# Altium footprint library Rising Clamp System WR-TBL_3.50 mm.PcbLib: 34 footprints (part 1 of 3)
Each footprint in its own frame and in the unit in brackets; x right, y up, seen from the top. Pads: shape width x height; smd on the part's side, far side on the other; paste and mask are expansions set on the pad; w line width, h text height; cw(c..) or ccw(c..) is an arc to the next point about the centre after c.
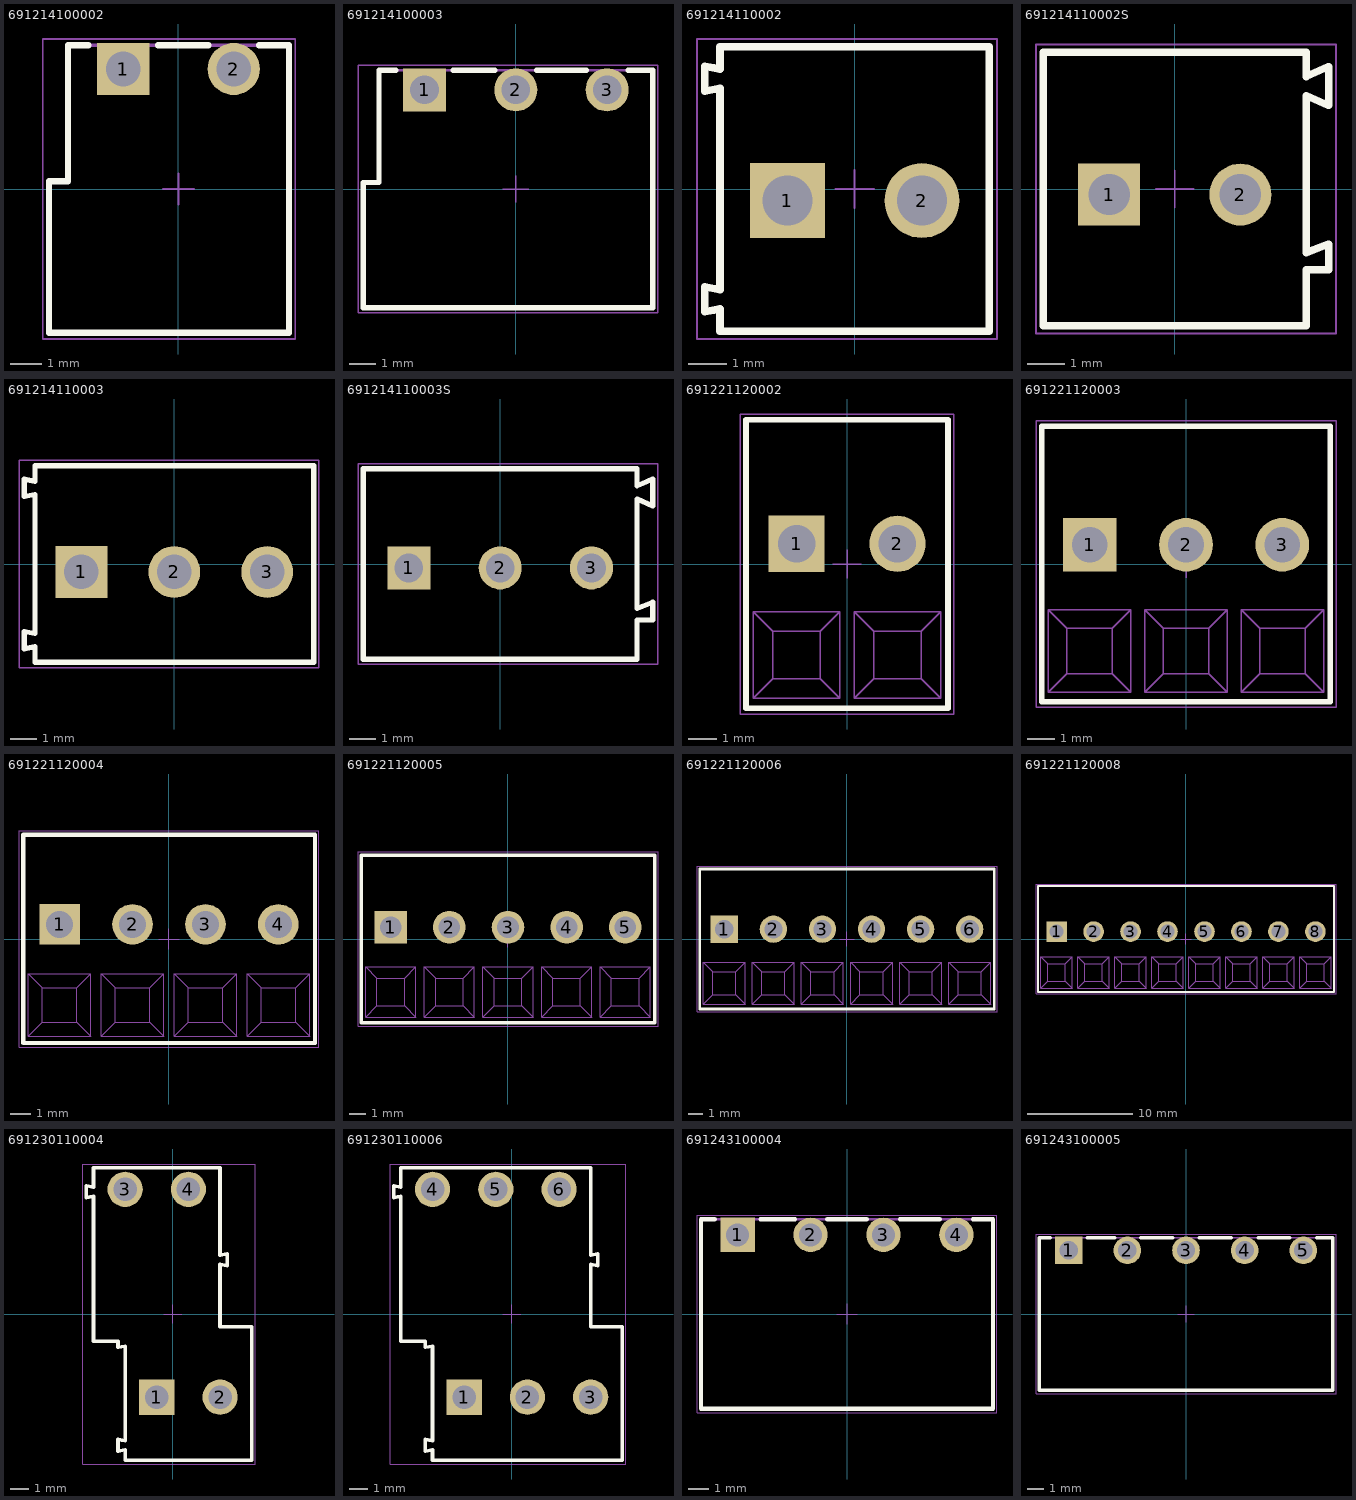
[diagram p0: the footprints below, top view; thin cyan lines are the x and y axes]

## 691214100002 [mm] "3.50 mm Vertical Entry Modular with Rising Cage Clamp, 2p"
height 7.3
pads (2):
  rect 1.65x1.65 hole 1.1: 1(-1.75,3.8)
  round 1.65 hole 1.1: 2(1.75,3.8)
Top Overlay:
  lines w0.2: -2.85,4.55 -3.5,4.55 -3.5,0.25 -4.1,0.25 -4.1,-4.55 3.5,-4.55 3.5,4.55 2.55,4.55 ; -0.65,4.55 0.95,4.55
M13 Assembly Top:
  lines w0.1: -4.1,-4.55 -4.1,0.25 -3.5,0.25 -3.5,4.55 3.5,4.55 3.5,-4.55 -4.1,-4.55
M15 Courtyard Top:
  lines w0.05: -0.5,0 0.5,0 ; 0,-0.5 0,0.5 ; -4.3,-4.75 3.7,-4.75 3.7,4.75 -4.3,4.75 -4.3,-4.75
3D body "691214100002.stp": height 7.35, standoff -3.45, extent -4.1,-4.55 3.5,4.55

## 691214100003 [mm] "3.50 mm Vertical Entry Modular with Rising Cage Clamp, 3p"
height 7.3
pads (3):
  rect 1.65x1.65 hole 1.1: 1(-3.5,3.8)
  round 1.65 hole 1.1: 2(0,3.8) 3(3.5,3.8)
Top Overlay:
  lines w0.2: -4.6,4.55 -5.25,4.55 -5.25,0.25 -5.85,0.25 -5.85,-4.55 5.25,-4.55 5.25,4.55 4.3,4.55 ; -2.4,4.55 -0.8,4.55 ; 0.8,4.55 2.7,4.55
M13 Assembly Top:
  lines w0.1: -5.85,-4.55 -5.85,0.25 -5.25,0.25 -5.25,4.55 5.25,4.55 5.25,-4.55 -5.85,-4.55
M15 Courtyard Top:
  lines w0.05: -0.5,0 0.5,0 ; 0,-0.5 0,0.5 ; -6.05,-4.75 5.45,-4.75 5.45,4.75 -6.05,4.75 -6.05,-4.75
3D body "691214100003.stp": height 7.35, standoff -3.45, extent -5.85,-4.55 5.25,4.55

## 691214110002 [mm] "3.50 mm Horizontal Entry Modular, 2p"
height 8.5
pads (2):
  rect 1.95x1.95 hole 1.3: 1(-1.75,-0.3)
  round 1.95 hole 1.3: 2(1.75,-0.3)
Top Overlay:
  lines w0.2: -3.9,-3.195 -3.5,-3.12 -3.5,-3.7 3.5,-3.7 3.5,3.7 -3.5,3.7 -3.5,3.12 -3.9,3.195 -3.9,2.545 -3.5,2.62 -3.5,-2.62 -3.9,-2.545 -3.9,-3.195
M13 Assembly Top:
  lines w0.1: -3.9,-3.195 -3.9,-2.545 -3.5,-2.62 -3.5,2.62 -3.9,2.545 -3.9,3.195 -3.5,3.12 -3.5,3.7 3.5,3.7 3.5,-3.7 -3.5,-3.7 -3.5,-3.12 -3.9,-3.195
M15 Courtyard Top:
  lines w0.05: -0.5,0 0.5,0 ; 0,-0.5 0,0.5 ; -4.1,-3.9 3.7,-3.9 3.7,3.9 -4.1,3.9 -4.1,-3.9
3D body "691214110002.stp": height 8.55, standoff -3.65, extent -3.95,-3.7 3.5,3.7

## 691214110002S [mm] "Serie 2141S - 3.50 mm _ 2 pins"
height 9.1
pads (2):
  rect 1.65x1.65 hole 1.1: 1(-1.75,-0.15)
  round 1.65 hole 1.1: 2(1.75,-0.15)
Top Overlay:
  lines w0.2: 4.1,-1.47 4.1,-2.15 3.5,-2.15 3.5,-3.65 -3.5,-3.65 -3.5,3.65 3.5,3.65 3.5,3 4.099,3.262 ; 4.099,-1.468 3.5,-1.7 3.5,2.49 4.099,2.228 ; 4.1,2.23 4.1,3.26
M13 Assembly Top:
  lines w0.1: 4.1,-1.47 4.1,-2.15 3.5,-2.15 3.5,-3.65 -3.5,-3.65 -3.5,3.65 3.5,3.65 3.5,3 4.099,3.262 ; 4.099,-1.468 3.5,-1.7 3.5,2.49 4.099,2.228 ; 4.1,2.23 4.1,3.26
M15 Courtyard Top:
  lines w0.05: -0.5,0 0.5,0 ; 0,-0.5 0,0.5 ; -3.7,-3.85 -3.7,3.85 4.3,3.85 4.3,-3.85 -3.7,-3.85
3D body "691214110002S.stp": height 9.15, standoff -3.45, extent -3.5,-3.65 4.1,3.65

## 691214110003 [mm] "3.50 mm Horizontal Entry Modular, 3p"
height 8.5
pads (3):
  rect 1.95x1.95 hole 1.3: 1(-3.5,-0.3)
  round 1.95 hole 1.3: 2(0,-0.3) 3(3.5,-0.3)
Top Overlay:
  lines w0.2: -5.65,-3.195 -5.65,-2.545 -5.25,-2.62 -5.25,2.62 -5.65,2.545 -5.65,3.195 -5.25,3.12 -5.25,3.7 5.25,3.7 5.25,-3.7 -5.25,-3.7 -5.25,-3.12 -5.65,-3.195
M13 Assembly Top:
  lines w0.1: -5.65,-3.195 -5.25,-3.12 -5.25,-3.7 5.25,-3.7 5.25,3.7 -5.25,3.7 -5.25,3.12 -5.65,3.195 -5.65,2.545 -5.25,2.62 -5.25,-2.62 -5.65,-2.545 -5.65,-3.195
M15 Courtyard Top:
  lines w0.05: -0.5,0 0.5,0 ; 0,-0.5 0,0.5 ; -5.85,-3.9 -5.85,3.9 5.45,3.9 5.45,-3.9 -5.85,-3.9
3D body "691214110003.stp": height 8.55, standoff -3.65, extent -5.7,-3.7 5.25,3.7

## 691214110003S [mm] "Serie 2141S - 3.50 mm _ 3 pins"
height 9.1
pads (3):
  rect 1.65x1.65 hole 1.1: 1(-3.5,-0.15)
  round 1.65 hole 1.1: 2(0,-0.15) 3(3.5,-0.15)
Top Overlay:
  lines w0.2: 5.85,-1.47 5.85,-2.15 5.25,-2.15 5.25,-3.65 -5.25,-3.65 -5.25,3.65 5.25,3.65 5.25,3 5.849,3.262 ; 5.849,-1.468 5.25,-1.7 5.25,2.49 5.849,2.228 ; 5.85,2.23 5.85,3.26
M13 Assembly Top:
  lines w0.1: 5.85,-1.47 5.85,-2.15 5.25,-2.15 5.25,-3.65 -5.25,-3.65 -5.25,3.65 5.25,3.65 5.25,3 5.849,3.262 ; 5.849,-1.468 5.25,-1.7 5.25,2.49 5.849,2.228 ; 5.85,2.23 5.85,3.26
M15 Courtyard Top:
  lines w0.05: -0.5,0 0.5,0 ; 0,-0.5 0,0.5 ; -5.45,-3.85 -5.45,3.85 6.05,3.85 6.05,-3.85 -5.45,-3.85
3D body "691214110003S.stp": height 9.15, standoff -3.45, extent -5.25,-3.65 5.85,3.65

## 691221120002 [mm] "3.50 mm 55° Entry, 2p"
height 9.47
pads (2):
  rect 1.95x1.95 hole 1.3: 1(-1.75,0.7)
  round 1.95 hole 1.3: 2(1.75,0.7)
Top Overlay:
  lines w0.2: -3.5,-5 -3.5,5 3.5,5 3.5,-5 -3.5,-5
M13 Assembly Top:
  lines w0.05: -3.25,-4.66 -2.575,-3.985 ; -3.25,-4.66 -3.25,-1.66 ; -3.25,-4.66 -0.25,-4.66 ; -3.25,-1.66 -2.575,-2.335 ; -3.25,-1.66 -0.25,-1.66 ; -2.575,-3.985 -2.575,-2.335 ; -2.575,-3.985 -0.925,-3.985 ; -2.575,-2.335 -0.925,-2.335 ; -0.925,-3.985 -0.25,-4.66 ; -0.925,-3.985 -0.925,-2.335 ; -0.925,-2.335 -0.25,-1.66 ; -0.25,-4.66 -0.25,-1.66 ; 0.25,-4.66 3.25,-4.66 ; 0.25,-4.66 0.25,-1.66 ; 0.25,-4.66 0.925,-3.985 ; 0.25,-1.66 3.25,-1.66 ; 0.25,-1.66 0.925,-2.335 ; 0.925,-3.985 2.575,-3.985 ; 0.925,-3.985 0.925,-2.335 ; 0.925,-2.335 2.575,-2.335 ; 2.575,-3.985 2.575,-2.335 ; 2.575,-3.985 3.25,-4.66 ; 2.575,-2.335 3.25,-1.66 ; 3.25,-4.66 3.25,-1.66
  lines w0.1: -3.5,-5 3.5,-5 3.5,5 -3.5,5 -3.5,-5
M15 Courtyard Top:
  lines w0.05: -0.5,0 0.5,0 ; 0,-0.5 0,0.5 ; -3.7,-5.2 3.7,-5.2 3.7,5.2 -3.7,5.2 -3.7,-5.2
3D body "691221120002.stp": height 9.54, standoff -3.43, extent -3.5,-5 3.5,5

## 691221120003 [mm] "3.50 mm 55° Entry, 3p"
height 9.47
pads (3):
  rect 1.95x1.95 hole 1.3: 1(-3.5,0.7)
  round 1.95 hole 1.3: 2(0,0.7) 3(3.5,0.7)
Top Overlay:
  lines w0.2: -5.25,-5 -5.25,5 5.25,5 5.25,-5 -5.25,-5
M13 Assembly Top:
  lines w0.05: -5,-4.66 -4.325,-3.985 ; -5,-4.66 -5,-1.66 ; -5,-4.66 -2,-4.66 ; -5,-1.66 -4.325,-2.335 ; -5,-1.66 -2,-1.66 ; -4.325,-3.985 -4.325,-2.335 ; -4.325,-3.985 -2.675,-3.985 ; -4.325,-2.335 -2.675,-2.335 ; -2.675,-3.985 -2,-4.66 ; -2.675,-3.985 -2.675,-2.335 ; -2.675,-2.335 -2,-1.66 ; -2,-4.66 -2,-1.66 ; -1.5,-4.66 -0.825,-3.985 ; -1.5,-4.66 -1.5,-1.66 ; -1.5,-4.66 1.5,-4.66 ; -1.5,-1.66 -0.825,-2.335 ; -1.5,-1.66 1.5,-1.66 ; -0.825,-3.985 -0.825,-2.335 ; -0.825,-3.985 0.825,-3.985 ; -0.825,-2.335 0.825,-2.335 ; 0.825,-3.985 1.5,-4.66 ; 0.825,-3.985 0.825,-2.335 ; 0.825,-2.335 1.5,-1.66 ; 1.5,-4.66 1.5,-1.66 ; 2,-4.66 5,-4.66 ; 2,-4.66 2,-1.66 ; 2,-4.66 2.675,-3.985 ; 2,-1.66 5,-1.66 ; 2,-1.66 2.675,-2.335 ; 2.675,-3.985 4.325,-3.985 ; 2.675,-3.985 2.675,-2.335 ; 2.675,-2.335 4.325,-2.335 ; 4.325,-3.985 4.325,-2.335 ; 4.325,-3.985 5,-4.66 ; 4.325,-2.335 5,-1.66 ; 5,-4.66 5,-1.66
  lines w0.1: -5.25,-5 5.25,-5 5.25,5 -5.25,5 -5.25,-5
M15 Courtyard Top:
  lines w0.05: -0.5,0 0.5,0 ; 0,-0.5 0,0.5 ; -5.45,-5.2 5.45,-5.2 5.45,5.2 -5.45,5.2 -5.45,-5.2
3D body "691221120003.stp": height 9.54, standoff -3.43, extent -5.25,-5 5.25,5

## 691221120004 [mm] "3.50 mm 55° Entry, 4p"
height 9.47
pads (4):
  rect 1.95x1.95 hole 1.3: 1(-5.25,0.7)
  round 1.95 hole 1.3: 2(-1.75,0.7) 3(1.75,0.7) 4(5.25,0.7)
Top Overlay:
  lines w0.2: -7,-5 7,-5 7,5 -7,5 -7,-5
M13 Assembly Top:
  lines w0.05: -6.75,-4.66 -6.075,-3.985 ; -6.75,-4.66 -6.75,-1.66 ; -6.75,-4.66 -3.75,-4.66 ; -6.75,-1.66 -6.075,-2.335 ; -6.75,-1.66 -3.75,-1.66 ; -6.075,-3.985 -6.075,-2.335 ; -6.075,-3.985 -4.425,-3.985 ; -6.075,-2.335 -4.425,-2.335 ; -4.425,-3.985 -3.75,-4.66 ; -4.425,-3.985 -4.425,-2.335 ; -4.425,-2.335 -3.75,-1.66 ; -3.75,-4.66 -3.75,-1.66 ; -3.25,-4.66 -0.25,-4.66 ; -3.25,-4.66 -3.25,-1.66 ; -3.25,-4.66 -2.575,-3.985 ; -3.25,-1.66 -0.25,-1.66 ; -3.25,-1.66 -2.575,-2.335 ; -2.575,-3.985 -0.925,-3.985 ; -2.575,-3.985 -2.575,-2.335 ; -2.575,-2.335 -0.925,-2.335 ; -0.925,-3.985 -0.925,-2.335 ; -0.925,-3.985 -0.25,-4.66 ; -0.925,-2.335 -0.25,-1.66 ; -0.25,-4.66 -0.25,-1.66 ; 0.25,-4.66 0.925,-3.985 ; 0.25,-4.66 0.25,-1.66 ; 0.25,-4.66 3.25,-4.66 ; 0.25,-1.66 0.925,-2.335 ; 0.25,-1.66 3.25,-1.66 ; 0.925,-3.985 0.925,-2.335 ; 0.925,-3.985 2.575,-3.985 ; 0.925,-2.335 2.575,-2.335 ; 2.575,-3.985 3.25,-4.66 ; 2.575,-3.985 2.575,-2.335 ; 2.575,-2.335 3.25,-1.66 ; 3.25,-4.66 3.25,-1.66 ; 3.75,-4.66 6.75,-4.66 ; 3.75,-4.66 3.75,-1.66 ; 3.75,-4.66 4.425,-3.985 ; 3.75,-1.66 6.75,-1.66 ; 3.75,-1.66 4.425,-2.335 ; 4.425,-3.985 6.075,-3.985 ; 4.425,-3.985 4.425,-2.335 ; 4.425,-2.335 6.075,-2.335 ; 6.075,-3.985 6.075,-2.335 ; 6.075,-3.985 6.75,-4.66 ; 6.075,-2.335 6.75,-1.66 ; 6.75,-4.66 6.75,-1.66
  lines w0.1: -7,-5 -7,5 7,5 7,-5 -7,-5
M15 Courtyard Top:
  lines w0.05: -0.5,0 0.5,0 ; 0,-0.5 0,0.5 ; -7.2,-5.2 -7.2,5.2 7.2,5.2 7.2,-5.2 -7.2,-5.2
3D body "691221120004.stp": height 9.54, standoff -3.43, extent -7,-5 7,5

## 691221120005 [mm] "3.50 mm 55° Entry, 5p"
height 9.47
pads (5):
  rect 1.95x1.95 hole 1.3: 1(-7,0.7)
  round 1.95 hole 1.3: 2(-3.5,0.7) 3(0,0.7) 4(3.5,0.7) 5(7,0.7)
Top Overlay:
  lines w0.2: -8.75,-5 -8.75,5 8.75,5 8.75,-5 -8.75,-5
M13 Assembly Top:
  lines w0.05: -8.5,-4.66 -7.825,-3.985 ; -8.5,-4.66 -8.5,-1.66 ; -8.5,-4.66 -5.5,-4.66 ; -8.5,-1.66 -7.825,-2.335 ; -8.5,-1.66 -5.5,-1.66 ; -7.825,-3.985 -7.825,-2.335 ; -7.825,-3.985 -6.175,-3.985 ; -7.825,-2.335 -6.175,-2.335 ; -6.175,-3.985 -5.5,-4.66 ; -6.175,-3.985 -6.175,-2.335 ; -6.175,-2.335 -5.5,-1.66 ; -5.5,-4.66 -5.5,-1.66 ; -5,-4.66 -4.325,-3.985 ; -5,-4.66 -5,-1.66 ; -5,-4.66 -2,-4.66 ; -5,-1.66 -4.325,-2.335 ; -5,-1.66 -2,-1.66 ; -4.325,-3.985 -4.325,-2.335 ; -4.325,-3.985 -2.675,-3.985 ; -4.325,-2.335 -2.675,-2.335 ; -2.675,-3.985 -2,-4.66 ; -2.675,-3.985 -2.675,-2.335 ; -2.675,-2.335 -2,-1.66 ; -2,-4.66 -2,-1.66 ; -1.5,-4.66 1.5,-4.66 ; -1.5,-4.66 -1.5,-1.66 ; -1.5,-4.66 -0.825,-3.985 ; -1.5,-1.66 1.5,-1.66 ; -1.5,-1.66 -0.825,-2.335 ; -0.825,-3.985 0.825,-3.985 ; -0.825,-3.985 -0.825,-2.335 ; -0.825,-2.335 0.825,-2.335 ; 0.825,-3.985 0.825,-2.335 ; 0.825,-3.985 1.5,-4.66 ; 0.825,-2.335 1.5,-1.66 ; 1.5,-4.66 1.5,-1.66 ; 2,-4.66 2.675,-3.985 ; 2,-4.66 2,-1.66 ; 2,-4.66 5,-4.66 ; 2,-1.66 2.675,-2.335 ; 2,-1.66 5,-1.66 ; 2.675,-3.985 2.675,-2.335 ; 2.675,-3.985 4.325,-3.985 ; 2.675,-2.335 4.325,-2.335 ; 4.325,-3.985 5,-4.66 ; 4.325,-3.985 4.325,-2.335 ; 4.325,-2.335 5,-1.66 ; 5,-4.66 5,-1.66 ; 5.5,-4.66 8.5,-4.66 ; 5.5,-4.66 5.5,-1.66 ; 5.5,-4.66 6.175,-3.985 ; 5.5,-1.66 8.5,-1.66 ; 5.5,-1.66 6.175,-2.335 ; 6.175,-3.985 7.825,-3.985 ; 6.175,-3.985 6.175,-2.335 ; 6.175,-2.335 7.825,-2.335 ; 7.825,-3.985 7.825,-2.335 ; 7.825,-3.985 8.5,-4.66 ; 7.825,-2.335 8.5,-1.66 ; 8.5,-4.66 8.5,-1.66
  lines w0.1: -8.75,-5 8.75,-5 8.75,5 -8.75,5 -8.75,-5
M15 Courtyard Top:
  lines w0.05: -0.5,0 0.5,0 ; 0,-0.5 0,0.5 ; -8.95,-5.2 8.95,-5.2 8.95,5.2 -8.95,5.2 -8.95,-5.2
3D body "691221120005.stp": height 9.54, standoff -3.43, extent -8.75,-5 8.75,5

## 691221120006 [mm] "3.50 mm 55° Entry, 6p"
height 9.47
pads (6):
  rect 1.95x1.95 hole 1.3: 1(-8.75,0.7)
  round 1.95 hole 1.3: 2(-5.25,0.7) 3(-1.75,0.7) 4(1.75,0.7) 5(5.25,0.7) 6(8.75,0.7)
Top Overlay:
  lines w0.2: -10.5,-5 -10.5,5 10.5,5 10.5,-5 -10.5,-5
M13 Assembly Top:
  lines w0.05: -10.25,-4.66 -9.575,-3.985 ; -10.25,-4.66 -10.25,-1.66 ; -10.25,-4.66 -7.25,-4.66 ; -10.25,-1.66 -9.575,-2.335 ; -10.25,-1.66 -7.25,-1.66 ; -9.575,-3.985 -9.575,-2.335 ; -9.575,-3.985 -7.925,-3.985 ; -9.575,-2.335 -7.925,-2.335 ; -7.925,-3.985 -7.25,-4.66 ; -7.925,-3.985 -7.925,-2.335 ; -7.925,-2.335 -7.25,-1.66 ; -7.25,-4.66 -7.25,-1.66 ; -6.75,-4.66 -3.75,-4.66 ; -6.75,-4.66 -6.75,-1.66 ; -6.75,-4.66 -6.075,-3.985 ; -6.75,-1.66 -3.75,-1.66 ; -6.75,-1.66 -6.075,-2.335 ; -6.075,-3.985 -4.425,-3.985 ; -6.075,-3.985 -6.075,-2.335 ; -6.075,-2.335 -4.425,-2.335 ; -4.425,-3.985 -4.425,-2.335 ; -4.425,-3.985 -3.75,-4.66 ; -4.425,-2.335 -3.75,-1.66 ; -3.75,-4.66 -3.75,-1.66 ; -3.25,-4.66 -2.575,-3.985 ; -3.25,-4.66 -3.25,-1.66 ; -3.25,-4.66 -0.25,-4.66 ; -3.25,-1.66 -2.575,-2.335 ; -3.25,-1.66 -0.25,-1.66 ; -2.575,-3.985 -2.575,-2.335 ; -2.575,-3.985 -0.925,-3.985 ; -2.575,-2.335 -0.925,-2.335 ; -0.925,-3.985 -0.25,-4.66 ; -0.925,-3.985 -0.925,-2.335 ; -0.925,-2.335 -0.25,-1.66 ; -0.25,-4.66 -0.25,-1.66 ; 0.25,-4.66 3.25,-4.66 ; 0.25,-4.66 0.25,-1.66 ; 0.25,-4.66 0.925,-3.985 ; 0.25,-1.66 3.25,-1.66 ; 0.25,-1.66 0.925,-2.335 ; 0.925,-3.985 2.575,-3.985 ; 0.925,-3.985 0.925,-2.335 ; 0.925,-2.335 2.575,-2.335 ; 2.575,-3.985 2.575,-2.335 ; 2.575,-3.985 3.25,-4.66 ; 2.575,-2.335 3.25,-1.66 ; 3.25,-4.66 3.25,-1.66 ; 3.75,-4.66 4.425,-3.985 ; 3.75,-4.66 3.75,-1.66 ; 3.75,-4.66 6.75,-4.66 ; 3.75,-1.66 4.425,-2.335 ; 3.75,-1.66 6.75,-1.66 ; 4.425,-3.985 4.425,-2.335 ; 4.425,-3.985 6.075,-3.985 ; 4.425,-2.335 6.075,-2.335 ; 6.075,-3.985 6.75,-4.66 ; 6.075,-3.985 6.075,-2.335 ; 6.075,-2.335 6.75,-1.66 ; 6.75,-4.66 6.75,-1.66 ; 7.25,-4.66 10.25,-4.66 ; 7.25,-4.66 7.25,-1.66 ; 7.25,-4.66 7.925,-3.985 ; 7.25,-1.66 10.25,-1.66 ; 7.25,-1.66 7.925,-2.335 ; 7.925,-3.985 9.575,-3.985 ; 7.925,-3.985 7.925,-2.335 ; 7.925,-2.335 9.575,-2.335 ; 9.575,-3.985 9.575,-2.335 ; 9.575,-3.985 10.25,-4.66 ; 9.575,-2.335 10.25,-1.66 ; 10.25,-4.66 10.25,-1.66
  lines w0.1: -10.5,-5 10.5,-5 10.5,5 -10.5,5 -10.5,-5
M15 Courtyard Top:
  lines w0.05: -0.5,0 0.5,0 ; 0,-0.5 0,0.5 ; -10.7,-5.2 10.7,-5.2 10.7,5.2 -10.7,5.2 -10.7,-5.2
3D body "691221120006.stp": height 9.54, standoff -3.43, extent -10.5,-5 10.5,5

## 691221120008 [mm] "3.50 mm 55° Entry, 8p"
height 9.47
pads (8):
  rect 1.95x1.95 hole 1.3: 1(-12.25,0.7)
  round 1.95 hole 1.3: 2(-8.75,0.7) 3(-5.25,0.7) 4(-1.75,0.7) 5(1.75,0.7) 6(5.25,0.7) 7(8.75,0.7) 8(12.25,0.7)
Top Overlay:
  lines w0.2: -14,-5 -14,5 14,5 14,-5 -14,-5
M13 Assembly Top:
  lines w0.05: -13.75,-4.66 -13.075,-3.985 ; -13.75,-4.66 -13.75,-1.66 ; -13.75,-4.66 -10.75,-4.66 ; -13.75,-1.66 -13.075,-2.335 ; -13.75,-1.66 -10.75,-1.66 ; -13.075,-3.985 -13.075,-2.335 ; -13.075,-3.985 -11.425,-3.985 ; -13.075,-2.335 -11.425,-2.335 ; -11.425,-3.985 -10.75,-4.66 ; -11.425,-3.985 -11.425,-2.335 ; -11.425,-2.335 -10.75,-1.66 ; -10.75,-4.66 -10.75,-1.66 ; -10.25,-4.66 -7.25,-4.66 ; -10.25,-4.66 -10.25,-1.66 ; -10.25,-4.66 -9.575,-3.985 ; -10.25,-1.66 -7.25,-1.66 ; -10.25,-1.66 -9.575,-2.335 ; -9.575,-3.985 -7.925,-3.985 ; -9.575,-3.985 -9.575,-2.335 ; -9.575,-2.335 -7.925,-2.335 ; -7.925,-3.985 -7.925,-2.335 ; -7.925,-3.985 -7.25,-4.66 ; -7.925,-2.335 -7.25,-1.66 ; -7.25,-4.66 -7.25,-1.66 ; -6.75,-4.66 -3.75,-4.66 ; -6.75,-4.66 -6.75,-1.66 ; -6.75,-4.66 -6.075,-3.985 ; -6.75,-1.66 -3.75,-1.66 ; -6.75,-1.66 -6.075,-2.335 ; -6.075,-3.985 -4.425,-3.985 ; -6.075,-3.985 -6.075,-2.335 ; -6.075,-2.335 -4.425,-2.335 ; -4.425,-3.985 -4.425,-2.335 ; -4.425,-3.985 -3.75,-4.66 ; -4.425,-2.335 -3.75,-1.66 ; -3.75,-4.66 -3.75,-1.66 ; -3.25,-4.66 -0.25,-4.66 ; -3.25,-4.66 -3.25,-1.66 ; -3.25,-4.66 -2.575,-3.985 ; -3.25,-1.66 -0.25,-1.66 ; -3.25,-1.66 -2.575,-2.335 ; -2.575,-3.985 -0.925,-3.985 ; -2.575,-3.985 -2.575,-2.335 ; -2.575,-2.335 -0.925,-2.335 ; -0.925,-3.985 -0.925,-2.335 ; -0.925,-3.985 -0.25,-4.66 ; -0.925,-2.335 -0.25,-1.66 ; -0.25,-4.66 -0.25,-1.66 ; 0.25,-4.66 3.25,-4.66 ; 0.25,-4.66 0.25,-1.66 ; 0.25,-4.66 0.925,-3.985 ; 0.25,-1.66 3.25,-1.66 ; 0.25,-1.66 0.925,-2.335 ; 0.925,-3.985 2.575,-3.985 ; 0.925,-3.985 0.925,-2.335 ; 0.925,-2.335 2.575,-2.335 ; 2.575,-3.985 2.575,-2.335 ; 2.575,-3.985 3.25,-4.66 ; 2.575,-2.335 3.25,-1.66 ; 3.25,-4.66 3.25,-1.66 ; 3.75,-4.66 6.75,-4.66 ; 3.75,-4.66 3.75,-1.66 ; 3.75,-4.66 4.425,-3.985 ; 3.75,-1.66 6.75,-1.66 ; 3.75,-1.66 4.425,-2.335 ; 4.425,-3.985 6.075,-3.985 ; 4.425,-3.985 4.425,-2.335 ; 4.425,-2.335 6.075,-2.335 ; 6.075,-3.985 6.075,-2.335 ; 6.075,-3.985 6.75,-4.66 ; 6.075,-2.335 6.75,-1.66 ; 6.75,-4.66 6.75,-1.66 ; 7.25,-4.66 10.25,-4.66 ; 7.25,-4.66 7.25,-1.66 ; 7.25,-4.66 7.925,-3.985 ; 7.25,-1.66 10.25,-1.66 ; 7.25,-1.66 7.925,-2.335 ; 7.925,-3.985 9.575,-3.985 ; 7.925,-3.985 7.925,-2.335 ; 7.925,-2.335 9.575,-2.335 ; 9.575,-3.985 9.575,-2.335 ; 9.575,-3.985 10.25,-4.66 ; 9.575,-2.335 10.25,-1.66 ; 10.25,-4.66 10.25,-1.66 ; 10.75,-4.66 13.75,-4.66 ; 10.75,-4.66 10.75,-1.66 ; 10.75,-4.66 11.425,-3.985 ; 10.75,-1.66 13.75,-1.66 ; 10.75,-1.66 11.425,-2.335 ; 11.425,-3.985 13.075,-3.985 ; 11.425,-3.985 11.425,-2.335 ; 11.425,-2.335 13.075,-2.335 ; 13.075,-3.985 13.075,-2.335 ; 13.075,-3.985 13.75,-4.66 ; 13.075,-2.335 13.75,-1.66 ; 13.75,-4.66 13.75,-1.66
  lines w0.1: -14,-5 14,-5 14,5 -14,5 -14,-5
M15 Courtyard Top:
  lines w0.05: -0.5,0 0.5,0 ; 0,-0.5 0,0.5 ; -14.2,-5.2 14.2,-5.2 14.2,5.2 -14.2,5.2 -14.2,-5.2
3D body "691221120008.stp": height 9.54, standoff -3.43, extent -14,-5 14,5

## 691230110004 [mm] "3,50mm - modular - 2 rows - Right - horizontal entry with rising cage clamp - 04p"
height 16.2
pads (4):
  rect 1.95x1.95 hole 1.3: 1(-0.875,-4.6)
  round 1.95 hole 1.3: 2(2.625,-4.6) 3(-2.625,6.9) 4(0.875,6.9)
Top Overlay:
  lines w0.2: -4.775,6.445 -4.375,6.52 -4.375,-1.5 -3.025,-1.5 -3.025,-1.85 -2.625,-1.78 -2.625,-7.02 -3.025,-6.945 -3.025,-7.595 -2.625,-7.52 -2.625,-8.1 4.375,-8.1 4.375,-0.7 2.625,-0.7 2.625,2.75 3.025,2.675 3.025,3.325 2.625,3.25 2.625,8.1 -4.375,8.1 -4.375,7.02 -4.775,7.095 -4.775,6.445
M13 Assembly Top:
  lines w0.1: -4.775,6.445 -4.775,7.095 -4.375,7.02 -4.375,8.1 2.625,8.1 2.625,3.25 3.025,3.325 3.025,2.675 2.625,2.75 2.625,-0.7 4.375,-0.7 4.375,-8.1 -2.625,-8.1 -2.625,-7.52 -3.025,-7.595 -3.025,-6.945 -2.625,-7.02 -2.625,-1.78 -3.025,-1.85 -3.025,-1.5 -4.375,-1.5 -4.375,6.52 -4.775,6.445
M15 Courtyard Top:
  lines w0.05: -0.5,0 0.5,0 ; 0,-0.5 0,0.5 ; -4.975,-8.3 -4.975,8.3 4.575,8.3 4.575,-8.3 -4.975,-8.3
3D body "691230110004.stp": height 16.3, standoff -3.6, extent -4.842,-8.1 4.375,8.1

## 691230110006 [mm] "3,50mm - modular - 2 rows - Right - horizontal entry with rising cage clamp - 06p"
height 16.2
pads (6):
  rect 1.95x1.95 hole 1.3: 1(-2.625,-4.6)
  round 1.95 hole 1.3: 2(0.875,-4.6) 3(4.375,-4.6) 4(-4.375,6.9) 5(-0.875,6.9) 6(2.625,6.9)
Top Overlay:
  lines w0.2: -6.525,6.445 -6.525,7.095 -6.125,7.02 -6.125,8.1 4.375,8.1 4.375,3.25 4.775,3.325 4.775,2.675 4.375,2.75 4.375,-0.7 6.125,-0.7 6.125,-8.1 -4.375,-8.1 -4.375,-7.52 -4.775,-7.595 -4.775,-6.945 -4.375,-7.02 -4.375,-1.78 -4.775,-1.85 -4.775,-1.5 -6.125,-1.5 -6.125,6.52 -6.525,6.445
M13 Assembly Top:
  lines w0.1: -6.525,6.445 -6.125,6.52 -6.125,-1.5 -4.775,-1.5 -4.775,-1.85 -4.375,-1.78 -4.375,-7.02 -4.775,-6.945 -4.775,-7.595 -4.375,-7.52 -4.375,-8.1 6.125,-8.1 6.125,-0.7 4.375,-0.7 4.375,2.75 4.775,2.675 4.775,3.325 4.375,3.25 4.375,8.1 -6.125,8.1 -6.125,7.02 -6.525,7.095 -6.525,6.445
M15 Courtyard Top:
  lines w0.05: -0.5,0 0.5,0 ; 0,-0.5 0,0.5 ; -6.725,-8.3 6.325,-8.3 6.325,8.3 -6.725,8.3 -6.725,-8.3
3D body "691230110006.stp": height 16.3, standoff -3.6, extent -6.572,-8.1 6.125,8.1

## 691243100004 [mm] "Serie 2431 - 3.50 mm _ 4 pins"
height 7.3
pads (4):
  rect 1.65x1.65 hole 1.1: 1(-5.25,3.8)
  round 1.65 hole 1.1: 2(-1.75,3.8) 3(1.75,3.8) 4(5.25,3.8)
Top Overlay:
  lines w0.2: -6.35,4.55 -7,4.55 -7,-4.55 7,-4.55 7,4.55 6.05,4.55 ; -4.15,4.55 -2.5,4.55 ; -0.95,4.55 0.95,4.55 ; 2.55,4.55 4.45,4.55
M13 Assembly Top:
  lines w0.1: -7,-4.55 7,-4.55 7,4.55 -7,4.55 -7,-4.55
M15 Courtyard Top:
  lines w0.05: -0.5,0 0.5,0 ; 0,-0.5 0,0.5 ; -7.2,-4.75 7.2,-4.75 7.2,4.75 -7.2,4.75 -7.2,-4.75
3D body "691243100004.stp": height 7.35, standoff -3.45, extent -7,-4.55 7,4.55

## 691243100005 [mm] "Serie 2431 - 3.50 mm _ 5 pins"
height 7.3
pads (5):
  rect 1.65x1.65 hole 1.1: 1(-7,3.8)
  round 1.65 hole 1.1: 2(-3.5,3.8) 3(0,3.8) 4(3.5,3.8) 5(7,3.8)
Top Overlay:
  lines w0.2: -8.1,4.55 -8.75,4.55 -8.75,-4.55 8.75,-4.55 8.75,4.55 7.8,4.55 ; -5.9,4.55 -4.25,4.55 ; -2.7,4.55 -0.8,4.55 ; 0.8,4.55 2.7,4.55 ; 4.3,4.55 6.2,4.55
M13 Assembly Top:
  lines w0.1: -8.75,-4.55 -8.75,4.55 8.75,4.55 8.75,-4.55 -8.75,-4.55
M15 Courtyard Top:
  lines w0.05: -0.5,0 0.5,0 ; 0,-0.5 0,0.5 ; -8.95,-4.75 -8.95,4.75 8.95,4.75 8.95,-4.75 -8.95,-4.75
3D body "691243100005.stp": height 7.35, standoff -3.45, extent -8.75,-4.55 8.75,4.55